# Altium footprint library ELCAP_D17_P7.PcbLib: 1 footprints
Each footprint in its own frame and in the unit in brackets; x right, y up, seen from the top. Pads: shape width x height; smd on the part's side, far side on the other; paste and mask are expansions set on the pad; w line width, h text height; cw(c..) or ccw(c..) is an arc to the next point about the centre after c.
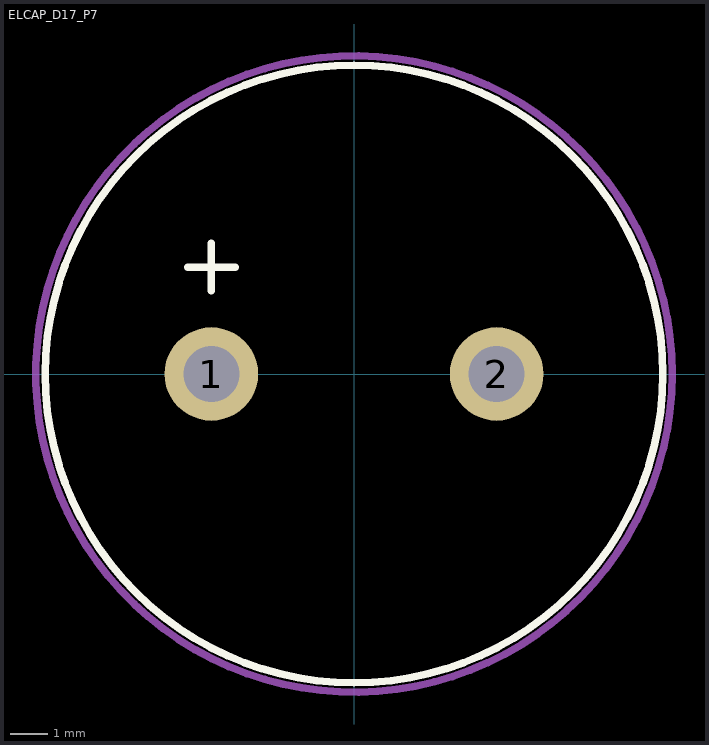
[diagram p0: the footprint, top view; thin cyan lines are the x and y axes]

## ELCAP_D17_P7 [mm]
pads (2):
  round 2.5 hole 1.5: 1(-3.81,0) 2(3.81,0)
Top Overlay:
  circle w0.2: c0,0 r8.25
  lines w0.2: -4.445,2.857 -3.175,2.857 ; -3.81,2.222 -3.81,3.492
TopAssy:
  circle w0.2: c0,0 r8.5
  lines w0.2: -4.445,0 -3.175,0 ; -3.81,-0.635 -3.81,0.635
3D body: height 26, standoff 0, extent -9,-9 9,9